# Altium footprint library 16P_HEADER-SPE-TSM_116_01_L_SV.PcbLib: 1 footprints
Each footprint in its own frame and in the unit in brackets; x right, y up, seen from the top. Pads: shape width x height; smd on the part's side, far side on the other; paste and mask are expansions set on the pad; w line width, h text height; cw(c..) or ccw(c..) is an arc to the next point about the centre after c.
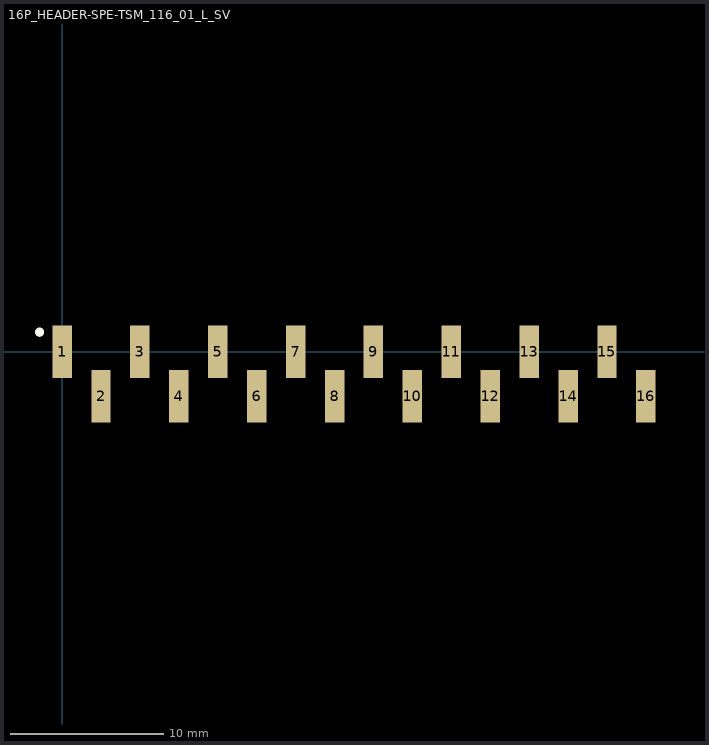
[diagram p0: the footprint, top view; thin cyan lines are the x and y axes]

## 16P_HEADER-SPE-TSM_116_01_L_SV [mm] "16 pin, 2.54mm header"
pads (16):
  rect 1.27x3.43 smd mask+0.051: 1(0,0) 2(2.54,-2.92) 3(5.08,0) 4(7.62,-2.92) 5(10.16,0) 6(12.7,-2.92) 7(15.24,0) 8(17.78,-2.92) 9(20.32,0) 10(22.86,-2.92) 11(25.4,0) 12(27.94,-2.92) 13(30.48,0) 14(33.02,-2.92) 15(35.56,0) 16(38.1,-2.92)
Top Overlay:
  circle w0.3: c-1.47,1.27 r0.15
3D body: height 9.61, standoff -0.04, extent -1.27,-3.81 39.37,1.092